# Altium footprint library dc_dc_converter.PcbLib: 6 footprints
Each footprint in its own frame and in the unit in brackets; x right, y up, seen from the top. Pads: shape width x height; smd on the part's side, far side on the other; paste and mask are expansions set on the pad; w line width, h text height; cw(c..) or ccw(c..) is an arc to the next point about the centre after c.
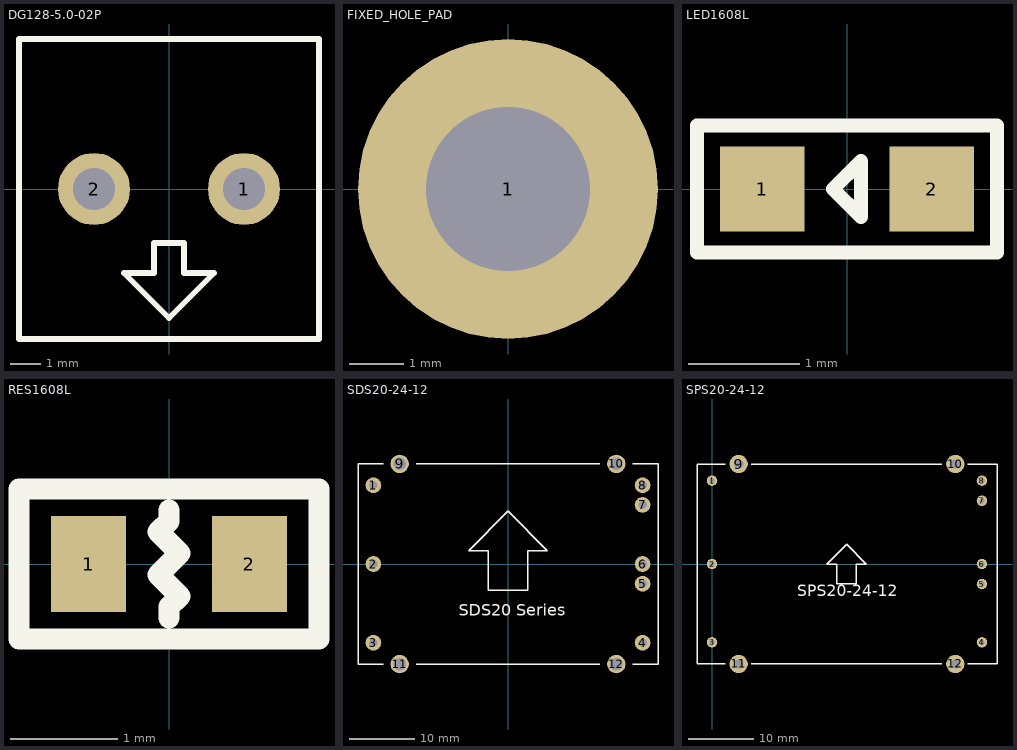
[diagram p0: the footprints below, top view; thin cyan lines are the x and y axes]

## DG128-5.0-02P [mm]
height 14
pads (2):
  round 2.4 hole 1.4: 1(2.5,0) 2(-2.5,0)
Top Overlay:
  lines w0.2: -5,-5 -5,5 5,5 5,-5 -5,-5 ; -1.5,-2.8 0,-4.3 1.5,-2.8 0.5,-2.8 0.5,-1.8 -0.5,-1.8 -0.5,-2.8 -1.5,-2.8
3D body: height 0.25, standoff 0, extent -1.9,2.8 -1.9,2.8
3D body: height 0.25, standoff 0, extent -5,4 -5,4
3D body "User Library-DG128-5_0-02P-14.step": height 14.1, standoff -3.5, extent -5.3,-5.2 5,5
3D body: height 0.25, standoff 0, extent -4,4 -4,4

## FIXED_HOLE_PAD [mm]
pads (1):
  round 5.5 hole 3: 1(0,0)

## LED1608L [mil]
height 39.37
pads (2):
  rect 30x30 smd: 1(-30,0) 2(30,0)
Top Overlay:
  lines w5: -53.15,-22.5 53.15,-22.5 53.15,22.5 -53.15,22.5 -53.15,-22.5 ; -4.92,0 4.92,9.84 4.92,-9.84 -4.92,0
3D body "User Library-LED SMD0603.step": height 26.76, standoff 0.19, extent -31.79,-14.48 33.17,14.06

## RES1608L [mm]
height 1
pads (2):
  rect 0.7x0.9 smd: 1(-0.75,0) 2(0.75,0)
Top Overlay:
  lines w0.2: 0,-0.5 0,-0.4 0.1,-0.3 -0.1,-0.1 0.1,0.1 -0.1,0.3 0,0.4 0,0.5 ; -1.4,-0.7 -1.4,0.7 1.4,0.7 1.4,-0.7 -1.4,-0.7
3D body "User Library-RESC1608X05N.step": height 0.45, standoff 0, extent -0.775,-0.425 0.775,0.425

## SDS20-24-12 [mm]
height 8.5
pads (12):
  round 2.4 hole 1.3: 1(-20.5,12) 2(-20.5,0) 3(-20.5,-12) 4(20.5,-12) 5(20.5,-3) 6(20.5,0) 7(20.5,9) 8(20.5,12)
  round 2.8 hole 1.9: 9(-16.5,15.25) 10(16.5,15.25) 11(-16.5,-15.25) 12(16.5,-15.25)
Top Overlay:
  lines w0.2: -19,-15.25 -22.85,-15.25 -22.85,15.25 -19,15.25 ; -14,-15.25 14,-15.25 ; -14,15.25 14,15.25 ; 19,-15.25 22.85,-15.25 22.85,15.25 19,15.25 ; 0,8 0,8 ; 0,8 -6,2 -3,2 -3,-4 3,-4 3,2 6,2 0,8
  text "SDS20 Series" at -7.5,-8.5 h3
3D body: height 9.5, standoff 0, extent -22.85,-15.25 22.85,15.25

## SPS20-24-12 [mm]
height 8.5
pads (12):
  round 1.6 hole 0.8: 1(0,12.7) 2(0,0) 3(0,-11.94) 4(41.14,-11.94) 5(41.14,-3.05) 6(41.14,0) 7(41.14,9.65) 8(41.14,12.7)
  round 2.8 hole 1.4: 9(4.06,15.24) 10(37.08,15.24) 11(4.06,-15.24) 12(37.08,-15.24)
Top Overlay:
  lines w0.2: 2,-15.24 -2.29,-15.24 -2.29,15.24 2,15.24 ; 6,-15.24 35,-15.24 ; 6,15.24 35,15.24 ; 39,-15.24 43.43,-15.24 43.43,15.24 41.14,15.24 39,15.24 ; 17.5,0 20.5,3 23.5,0 22,0 22,-3 20.5,-3 19,-3 19,0 17.5,0
  text "SPS20-24-12" at 13,-5.5 h3
3D body: height 8.5, standoff 0, extent -2.29,-15.24 43.43,15.24